# Altium integrated library TI Amplifiers and Linear Instrumentation Amplifier.IntLib: 274 symbols (part 10 of 10)
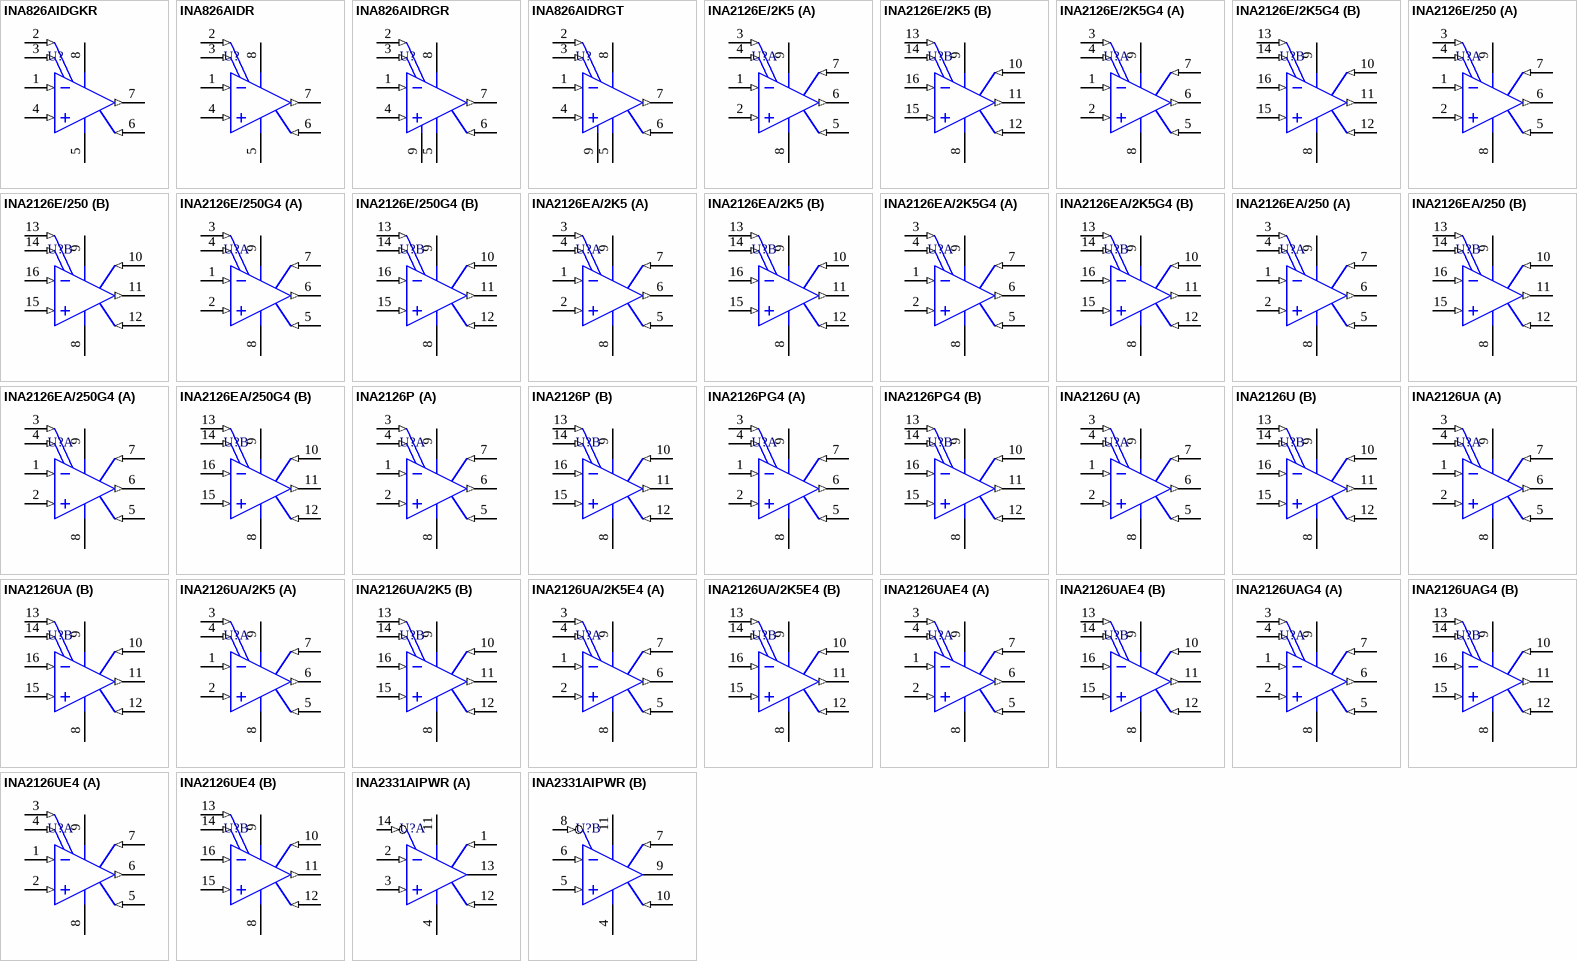
[diagram p17: symbols INA826AIDGKR to INA2331AIPWR]

## INA2126U
designator U?
Micropower Instrumentation Amplifier Dual Versions, -40 to 85 degC, 16-pin SOIC (D16), Green (RoHS & no Sb/Br); Manufacturer: Texas Instruments; PartNumber: INA2126U; Bandwidth at G: 100(Min)(kHz)=9; CMRR(Min)(dB): 83; Gain(V/V): 5 to 10000; Input Bias Current (+/-)(Max)(nA): 25; Input Offset (+/-)(Max)(uV): 250; Input Offset Drift (+/-)(Max)(uV/Degrees Celsius): 3; Noise at 1kHz(Typ)(nV/rt(Hz)): 35; Non-Linearity (+/-)(Max)(%): 0.012; Number of Channels: 2; Quiescent Current (+/-)(Typ)(mA): 0.175; SubFamily: Dual Supply; Vs(Max)(V): 36; Vs(Min)(V): 2.7; DatasheetVersion: SBOS062A; PackageVersion: 4040047-6/M, 06/2011; PackageReference: D16; PackageDescription: 16-Pin Plastic Small Outline, Body 9.9 x 3.9 mm, Pitch 1.27 mm; Supplier 1: Digi-Key; Supplier Part Number 1: INA2126U-ND; Supplier 2: Farnell; Supplier Part Number 2: 1459464; Supplier 3: Newark; Supplier Part Number 3: 61M6797; Supplier 4: Newark; Supplier Part Number 4: 74C9839; Supplier 5: Mouser; Supplier Part Number 5: 595-INA2126U; Eco-Plan: Green (RoHS & no Sb/Br); Mounting Technology: Surface Mount; Code_JEDEC: MS-012; ComponentLink1Description: Manufacturer URL; ComponentLink1URL: http://www.ti.com/; ComponentLink2Description: Datasheet; ComponentLink2URL: http://www.ti.com/general/docs/lit/getliterature.tsp?genericPartNumber=INA2126&fileType=pdf; ComponentLink3Description: Package Specification; ComponentLink3URL: http://www.ti.com/lit/ml/mpds178g/mpds178g.pdf
footprint TI-D16_N (SOIC, 16-Leads, Body 10x4mm, Pitch 1.27mm, IPC Medium Density)
footprint TI-D16_L (SOIC, 16-Leads, Body 10x4mm, Pitch 1.27mm, IPC High Density)
footprint TI-D16_M (SOIC, 16-Leads, Body 10x4mm, Pitch 1.27mm, IPC Low Density)
pins on every part: 8 V- (power), 9 V+ (power)
part A pins: 1 VINA- (in), 2 VINA+ (in), 3 RGA (in), 4 RGA (in), 5 REFA (in), 6 VOA (out), 7 SENSEA (in)
part B pins: 10 SENSEB (in), 11 VOB (out), 12 REFB (in), 13 RGB (in), 14 RGB (in), 15 VINB+ (in), 16 VINB- (in)

## INA2126UA
designator U?
Micropower Instrumentation Amplifier Dual Versions, -40 to 85 degC, 16-pin SOIC (D16), Green (RoHS & no Sb/Br); Manufacturer: Texas Instruments; PartNumber: INA2126UA; Bandwidth at G: 100(Min)(kHz)=9; CMRR(Min)(dB): 74; Gain(V/V): 5 to 10000; Input Bias Current (+/-)(Max)(nA): 50; Input Offset (+/-)(Max)(uV): 500; Input Offset Drift (+/-)(Max)(uV/Degrees Celsius): 5; Noise at 1kHz(Typ)(nV/rt(Hz)): 35; Non-Linearity (+/-)(Max)(%): 0.012; Number of Channels: 2; Quiescent Current (+/-)(Typ)(mA): 0.175; SubFamily: Dual Supply; Vs(Max)(V): 36; Vs(Min)(V): 2.7; DatasheetVersion: SBOS062A; PackageVersion: 4040047-6/M, 06/2011; PackageReference: D16; PackageDescription: 16-Pin Plastic Small Outline, Body 9.9 x 3.9 mm, Pitch 1.27 mm; Supplier 1: Digi-Key; Supplier Part Number 1: INA2126UA-ND; Supplier 2: Farnell; Supplier Part Number 2: 1459465; Supplier 3: Newark; Supplier Part Number 3: 61M6798; Supplier 4: Newark; Supplier Part Number 4: 80K5911; Supplier 5: Mouser; Supplier Part Number 5: 595-INA2126UA; Eco-Plan: Green (RoHS & no Sb/Br); Mounting Technology: Surface Mount; Code_JEDEC: MS-012; ComponentLink1Description: Manufacturer URL; ComponentLink1URL: http://www.ti.com/; ComponentLink2Description: Datasheet; ComponentLink2URL: http://www.ti.com/general/docs/lit/getliterature.tsp?genericPartNumber=INA2126&fileType=pdf; ComponentLink3Description: Package Specification; ComponentLink3URL: http://www.ti.com/lit/ml/mpds178g/mpds178g.pdf
footprint TI-D16_N (SOIC, 16-Leads, Body 10x4mm, Pitch 1.27mm, IPC Medium Density)
footprint TI-D16_L (SOIC, 16-Leads, Body 10x4mm, Pitch 1.27mm, IPC High Density)
footprint TI-D16_M (SOIC, 16-Leads, Body 10x4mm, Pitch 1.27mm, IPC Low Density)
pins on every part: 8 V- (power), 9 V+ (power)
part A pins: 1 VINA- (in), 2 VINA+ (in), 3 RGA (in), 4 RGA (in), 5 REFA (in), 6 VOA (out), 7 SENSEA (in)
part B pins: 10 SENSEB (in), 11 VOB (out), 12 REFB (in), 13 RGB (in), 14 RGB (in), 15 VINB+ (in), 16 VINB- (in)

## INA2126UA/2K5
designator U?
Micropower Instrumentation Amplifier Dual Versions, -40 to 85 degC, 16-pin SOIC (D16), Green (RoHS & no Sb/Br); Manufacturer: Texas Instruments; PartNumber: INA2126UA/2K5; Bandwidth at G: 100(Min)(kHz)=9; CMRR(Min)(dB): 74; Gain(V/V): 5 to 10000; Input Bias Current (+/-)(Max)(nA): 50; Input Offset (+/-)(Max)(uV): 500; Input Offset Drift (+/-)(Max)(uV/Degrees Celsius): 5; Noise at 1kHz(Typ)(nV/rt(Hz)): 35; Non-Linearity (+/-)(Max)(%): 0.012; Number of Channels: 2; Quiescent Current (+/-)(Typ)(mA): 0.175; SubFamily: Dual Supply; Vs(Max)(V): 36; Vs(Min)(V): 2.7; DatasheetVersion: SBOS062A; PackageVersion: 4040047-6/M, 06/2011; PackageReference: D16; PackageDescription: 16-Pin Plastic Small Outline, Body 9.9 x 3.9 mm, Pitch 1.27 mm; Supplier 1: Digi-Key; Supplier Part Number 1: INA2126UA/2K5-ND; Supplier 2: Newark; Supplier Part Number 2: 74C9841; Supplier 3: Mouser; Supplier Part Number 3: 595-INA2126UA/2K5; Eco-Plan: Green (RoHS & no Sb/Br); Mounting Technology: Surface Mount; Code_JEDEC: MS-012; ComponentLink1Description: Manufacturer URL; ComponentLink1URL: http://www.ti.com/; ComponentLink2Description: Datasheet; ComponentLink2URL: http://www.ti.com/general/docs/lit/getliterature.tsp?genericPartNumber=INA2126&fileType=pdf; ComponentLink3Description: Package Specification; ComponentLink3URL: http://www.ti.com/lit/ml/mpds178g/mpds178g.pdf
footprint TI-D16_N (SOIC, 16-Leads, Body 10x4mm, Pitch 1.27mm, IPC Medium Density)
footprint TI-D16_L (SOIC, 16-Leads, Body 10x4mm, Pitch 1.27mm, IPC High Density)
footprint TI-D16_M (SOIC, 16-Leads, Body 10x4mm, Pitch 1.27mm, IPC Low Density)
pins on every part: 8 V- (power), 9 V+ (power)
part A pins: 1 VINA- (in), 2 VINA+ (in), 3 RGA (in), 4 RGA (in), 5 REFA (in), 6 VOA (out), 7 SENSEA (in)
part B pins: 10 SENSEB (in), 11 VOB (out), 12 REFB (in), 13 RGB (in), 14 RGB (in), 15 VINB+ (in), 16 VINB- (in)

## INA2126UA/2K5E4
designator U?
Micropower Instrumentation Amplifier Dual Versions, -40 to 85 degC, 16-pin SOIC (D16), Green (RoHS & no Sb/Br); Manufacturer: Texas Instruments; PartNumber: INA2126UA/2K5E4; Bandwidth at G: 100(Min)(kHz)=9; CMRR(Min)(dB): 74; Gain(V/V): 5 to 10000; Input Bias Current (+/-)(Max)(nA): 50; Input Offset (+/-)(Max)(uV): 500; Input Offset Drift (+/-)(Max)(uV/Degrees Celsius): 5; Noise at 1kHz(Typ)(nV/rt(Hz)): 35; Non-Linearity (+/-)(Max)(%): 0.012; Number of Channels: 2; Quiescent Current (+/-)(Typ)(mA): 0.175; SubFamily: Dual Supply; Vs(Max)(V): 36; Vs(Min)(V): 2.7; DatasheetVersion: SBOS062A; PackageVersion: 4040047-6/M, 06/2011; PackageReference: D16; PackageDescription: 16-Pin Plastic Small Outline, Body 9.9 x 3.9 mm, Pitch 1.27 mm; Supplier 1: Digi-Key; Supplier Part Number 1: INA2126UA/2K5E4-ND; Supplier 2: Mouser; Supplier Part Number 2: 595-INA2126UA/2K5E4; Eco-Plan: Green (RoHS & no Sb/Br); Mounting Technology: Surface Mount; Code_JEDEC: MS-012; ComponentLink1Description: Manufacturer URL; ComponentLink1URL: http://www.ti.com/; ComponentLink2Description: Datasheet; ComponentLink2URL: http://www.ti.com/general/docs/lit/getliterature.tsp?genericPartNumber=INA2126&fileType=pdf; ComponentLink3Description: Package Specification; ComponentLink3URL: http://www.ti.com/lit/ml/mpds178g/mpds178g.pdf
footprint TI-D16_N (SOIC, 16-Leads, Body 10x4mm, Pitch 1.27mm, IPC Medium Density)
footprint TI-D16_L (SOIC, 16-Leads, Body 10x4mm, Pitch 1.27mm, IPC High Density)
footprint TI-D16_M (SOIC, 16-Leads, Body 10x4mm, Pitch 1.27mm, IPC Low Density)
pins on every part: 8 V- (power), 9 V+ (power)
part A pins: 1 VINA- (in), 2 VINA+ (in), 3 RGA (in), 4 RGA (in), 5 REFA (in), 6 VOA (out), 7 SENSEA (in)
part B pins: 10 SENSEB (in), 11 VOB (out), 12 REFB (in), 13 RGB (in), 14 RGB (in), 15 VINB+ (in), 16 VINB- (in)

## INA2126UAE4
designator U?
Micropower Instrumentation Amplifier Dual Versions, -40 to 85 degC, 16-pin SOIC (D16), Green (RoHS & no Sb/Br); Manufacturer: Texas Instruments; PartNumber: INA2126UAE4; Bandwidth at G: 100(Min)(kHz)=9; CMRR(Min)(dB): 74; Gain(V/V): 5 to 10000; Input Bias Current (+/-)(Max)(nA): 50; Input Offset (+/-)(Max)(uV): 500; Input Offset Drift (+/-)(Max)(uV/Degrees Celsius): 5; Noise at 1kHz(Typ)(nV/rt(Hz)): 35; Non-Linearity (+/-)(Max)(%): 0.012; Number of Channels: 2; Quiescent Current (+/-)(Typ)(mA): 0.175; SubFamily: Dual Supply; Vs(Max)(V): 36; Vs(Min)(V): 2.7; DatasheetVersion: SBOS062A; PackageVersion: 4040047-6/M, 06/2011; PackageReference: D16; PackageDescription: 16-Pin Plastic Small Outline, Body 9.9 x 3.9 mm, Pitch 1.27 mm; Supplier 1: Digi-Key; Supplier Part Number 1: INA2126UAE4-ND; Supplier 2: Farnell; Supplier Part Number 2: 1234796; Supplier 3: Mouser; Supplier Part Number 3: 595-INA2126UAE4; Eco-Plan: Green (RoHS & no Sb/Br); Mounting Technology: Surface Mount; Code_JEDEC: MS-012; ComponentLink1Description: Manufacturer URL; ComponentLink1URL: http://www.ti.com/; ComponentLink2Description: Datasheet; ComponentLink2URL: http://www.ti.com/general/docs/lit/getliterature.tsp?genericPartNumber=INA2126&fileType=pdf; ComponentLink3Description: Package Specification; ComponentLink3URL: http://www.ti.com/lit/ml/mpds178g/mpds178g.pdf
footprint TI-D16_N (SOIC, 16-Leads, Body 10x4mm, Pitch 1.27mm, IPC Medium Density)
footprint TI-D16_L (SOIC, 16-Leads, Body 10x4mm, Pitch 1.27mm, IPC High Density)
footprint TI-D16_M (SOIC, 16-Leads, Body 10x4mm, Pitch 1.27mm, IPC Low Density)
pins on every part: 8 V- (power), 9 V+ (power)
part A pins: 1 VINA- (in), 2 VINA+ (in), 3 RGA (in), 4 RGA (in), 5 REFA (in), 6 VOA (out), 7 SENSEA (in)
part B pins: 10 SENSEB (in), 11 VOB (out), 12 REFB (in), 13 RGB (in), 14 RGB (in), 15 VINB+ (in), 16 VINB- (in)

## INA2126UAG4
designator U?
Micropower Instrumentation Amplifier Dual Versions, -40 to 85 degC, 16-pin SOIC (D16), Green (RoHS & no Sb/Br); Manufacturer: Texas Instruments; PartNumber: INA2126UAG4; Bandwidth at G: 100(Min)(kHz)=9; CMRR(Min)(dB): 74; Gain(V/V): 5 to 10000; Input Bias Current (+/-)(Max)(nA): 50; Input Offset (+/-)(Max)(uV): 500; Input Offset Drift (+/-)(Max)(uV/Degrees Celsius): 5; Noise at 1kHz(Typ)(nV/rt(Hz)): 35; Non-Linearity (+/-)(Max)(%): 0.012; Number of Channels: 2; Quiescent Current (+/-)(Typ)(mA): 0.175; SubFamily: Dual Supply; Vs(Max)(V): 36; Vs(Min)(V): 2.7; DatasheetVersion: SBOS062A; PackageVersion: 4040047-6/M, 06/2011; PackageReference: D16; PackageDescription: 16-Pin Plastic Small Outline, Body 9.9 x 3.9 mm, Pitch 1.27 mm; Supplier 1: Digi-Key; Supplier Part Number 1: INA2126UAG4-ND; Supplier 2: Mouser; Supplier Part Number 2: 595-INA2126UAG4; Eco-Plan: Green (RoHS & no Sb/Br); Mounting Technology: Surface Mount; Code_JEDEC: MS-012; ComponentLink1Description: Manufacturer URL; ComponentLink1URL: http://www.ti.com/; ComponentLink2Description: Datasheet; ComponentLink2URL: http://www.ti.com/general/docs/lit/getliterature.tsp?genericPartNumber=INA2126&fileType=pdf; ComponentLink3Description: Package Specification; ComponentLink3URL: http://www.ti.com/lit/ml/mpds178g/mpds178g.pdf
footprint TI-D16_N (SOIC, 16-Leads, Body 10x4mm, Pitch 1.27mm, IPC Medium Density)
footprint TI-D16_L (SOIC, 16-Leads, Body 10x4mm, Pitch 1.27mm, IPC High Density)
footprint TI-D16_M (SOIC, 16-Leads, Body 10x4mm, Pitch 1.27mm, IPC Low Density)
pins on every part: 8 V- (power), 9 V+ (power)
part A pins: 1 VINA- (in), 2 VINA+ (in), 3 RGA (in), 4 RGA (in), 5 REFA (in), 6 VOA (out), 7 SENSEA (in)
part B pins: 10 SENSEB (in), 11 VOB (out), 12 REFB (in), 13 RGB (in), 14 RGB (in), 15 VINB+ (in), 16 VINB- (in)

## INA2126UE4
designator U?
Micropower Instrumentation Amplifier Dual Versions, -40 to 85 degC, 16-pin SOIC (D16), Green (RoHS & no Sb/Br); Manufacturer: Texas Instruments; PartNumber: INA2126UE4; Bandwidth at G: 100(Min)(kHz)=9; CMRR(Min)(dB): 83; Gain(V/V): 5 to 10000; Input Bias Current (+/-)(Max)(nA): 25; Input Offset (+/-)(Max)(uV): 250; Input Offset Drift (+/-)(Max)(uV/Degrees Celsius): 3; Noise at 1kHz(Typ)(nV/rt(Hz)): 35; Non-Linearity (+/-)(Max)(%): 0.012; Number of Channels: 2; Quiescent Current (+/-)(Typ)(mA): 0.175; SubFamily: Dual Supply; Vs(Max)(V): 36; Vs(Min)(V): 2.7; DatasheetVersion: SBOS062A; PackageVersion: 4040047-6/M, 06/2011; PackageReference: D16; PackageDescription: 16-Pin Plastic Small Outline, Body 9.9 x 3.9 mm, Pitch 1.27 mm; Supplier 1: Digi-Key; Supplier Part Number 1: INA2126UE4-ND; Supplier 2: Mouser; Supplier Part Number 2: 595-INA2126UE4; Eco-Plan: Green (RoHS & no Sb/Br); Mounting Technology: Surface Mount; Code_JEDEC: MS-012; ComponentLink1Description: Manufacturer URL; ComponentLink1URL: http://www.ti.com/; ComponentLink2Description: Datasheet; ComponentLink2URL: http://www.ti.com/general/docs/lit/getliterature.tsp?genericPartNumber=INA2126&fileType=pdf; ComponentLink3Description: Package Specification; ComponentLink3URL: http://www.ti.com/lit/ml/mpds178g/mpds178g.pdf
footprint TI-D16_N (SOIC, 16-Leads, Body 10x4mm, Pitch 1.27mm, IPC Medium Density)
footprint TI-D16_L (SOIC, 16-Leads, Body 10x4mm, Pitch 1.27mm, IPC High Density)
footprint TI-D16_M (SOIC, 16-Leads, Body 10x4mm, Pitch 1.27mm, IPC Low Density)
pins on every part: 8 V- (power), 9 V+ (power)
part A pins: 1 VINA- (in), 2 VINA+ (in), 3 RGA (in), 4 RGA (in), 5 REFA (in), 6 VOA (out), 7 SENSEA (in)
part B pins: 10 SENSEB (in), 11 VOB (out), 12 REFB (in), 13 RGB (in), 14 RGB (in), 15 VINB+ (in), 16 VINB- (in)

## INA2331AIPWR
designator U?
Low-Power, Single-Supply, CMOS Instrumentation Amplifier, -55 to 125 degC, 14-pin SOP (PW14), Green (RoHS & no Sb/Br); Manufacturer: Texas Instruments; PartNumber: INA2331AIPWR; CMRR(Min)(dB): 80; Gain(V/V): 5 to 1000; Input Bias Current (+/-)(Max)(nA): 0.01; Input Offset (+/-)(Max)(uV): 1000; Noise at 1kHz(Typ)(nV/rt(Hz)): 46; Number of Channels: 2; Quiescent Current (+/-)(Typ)(mA): 0.415; SubFamily: Single Supply; Vs(Max)(V): 5.5; Vs(Min)(V): 2.7; DatasheetVersion: SBOS215C; PackageVersion: 4040064-3/G, 02/2011; PackageReference: PW14; PackageDescription: 14-Pin Plastic Small Outline, Body 5 x 4.4 mm, Pitch 0.65 mm; Supplier 1: Digi-Key; Supplier Part Number 1: INA2331AIPWRTR-ND; Supplier 2: Digi-Key; Supplier Part Number 2: INA2331AIPWRCT-ND; Supplier 3: Digi-Key; Supplier Part Number 3: INA2331AIPWRDKR-ND; Supplier 4: Newark; Supplier Part Number 4: 74C9864; Supplier 5: Mouser; Supplier Part Number 5: 595-INA2331AIPWR; Eco-Plan: Green (RoHS & no Sb/Br); Non-Linearity (+/-)(Max)(%): 0.01; Mounting Technology: Surface Mount; Code_JEDEC: MO-153; ComponentLink1Description: Manufacturer URL; ComponentLink1URL: http://www.ti.com/; ComponentLink2Description: Datasheet; ComponentLink2URL: http://www.ti.com/general/docs/lit/getliterature.tsp?genericPartNumber=INA2331&fileType=pdf; ComponentLink3Description: Package Specification; ComponentLink3URL: http://www.ti.com/litv/pdf/mpds360
footprint TI-PW14_N (SOP, 14-Leads, Body 5.1x4.5mm, Pitch 0.65mm, IPC Medium Density)
footprint TI-PW14_L (SOP, 14-Leads, Body 5.1x4.5mm, Pitch 0.65mm, IPC High Density)
footprint TI-PW14_M (SOP, 14-Leads, Body 5.1x4.5mm, Pitch 0.65mm, IPC Low Density)
pins on every part: 4 V- (power), 11 V+ (power)
part A pins: 1 RGA (in), 2 VINA- (in), 3 VINA+ (in), 12 REFA (in), 13 VOUTA (hiz), 14 SHUTDOWN A (in)
part B pins: 5 VINB+ (in), 6 VINB- (in), 7 RGB (in), 8 SHUTDOWN B (in), 9 VOUTB (hiz), 10 REFB (in)

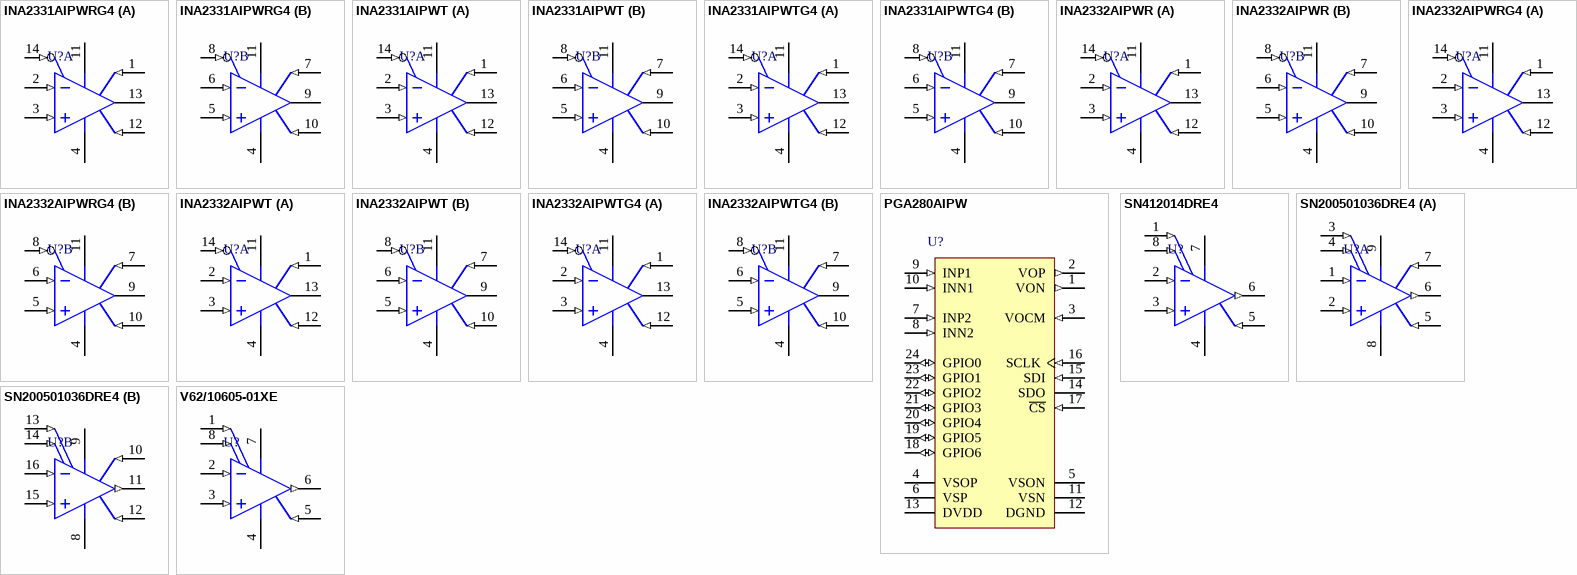
[diagram p8: symbols INA2331AIPWRG4 to V62/10605-01XE]

## INA2331AIPWRG4
designator U?
Low-Power, Single-Supply, CMOS Instrumentation Amplifier, -55 to 125 degC, 14-pin SOP (PW14), Green (RoHS & no Sb/Br); Manufacturer: Texas Instruments; PartNumber: INA2331AIPWRG4; CMRR(Min)(dB): 80; Gain(V/V): 5 to 1000; Input Bias Current (+/-)(Max)(nA): 0.01; Input Offset (+/-)(Max)(uV): 1000; Noise at 1kHz(Typ)(nV/rt(Hz)): 46; Number of Channels: 2; Quiescent Current (+/-)(Typ)(mA): 0.415; SubFamily: Single Supply; Vs(Max)(V): 5.5; Vs(Min)(V): 2.7; DatasheetVersion: SBOS215C; PackageVersion: 4040064-3/G, 02/2011; PackageReference: PW14; PackageDescription: 14-Pin Plastic Small Outline, Body 5 x 4.4 mm, Pitch 0.65 mm; Supplier 1: Digi-Key; Supplier Part Number 1: INA2331AIPWRG4-ND; Supplier 2: Mouser; Supplier Part Number 2: 595-INA2331AIPWRG4; Eco-Plan: Green (RoHS & no Sb/Br); Non-Linearity (+/-)(Max)(%): 0.01; Mounting Technology: Surface Mount; Code_JEDEC: MO-153; ComponentLink1Description: Manufacturer URL; ComponentLink1URL: http://www.ti.com/; ComponentLink2Description: Datasheet; ComponentLink2URL: http://www.ti.com/general/docs/lit/getliterature.tsp?genericPartNumber=INA2331&fileType=pdf; ComponentLink3Description: Package Specification; ComponentLink3URL: http://www.ti.com/litv/pdf/mpds360
footprint TI-PW14_N (SOP, 14-Leads, Body 5.1x4.5mm, Pitch 0.65mm, IPC Medium Density)
footprint TI-PW14_L (SOP, 14-Leads, Body 5.1x4.5mm, Pitch 0.65mm, IPC High Density)
footprint TI-PW14_M (SOP, 14-Leads, Body 5.1x4.5mm, Pitch 0.65mm, IPC Low Density)
pins on every part: 4 V- (power), 11 V+ (power)
part A pins: 1 RGA (in), 2 VINA- (in), 3 VINA+ (in), 12 REFA (in), 13 VOUTA (hiz), 14 SHUTDOWN A (in)
part B pins: 5 VINB+ (in), 6 VINB- (in), 7 RGB (in), 8 SHUTDOWN B (in), 9 VOUTB (hiz), 10 REFB (in)

## INA2331AIPWT
designator U?
Low-Power, Single-Supply, CMOS Instrumentation Amplifier, -55 to 125 degC, 14-pin SOP (PW14), Green (RoHS & no Sb/Br); Manufacturer: Texas Instruments; PartNumber: INA2331AIPWT; CMRR(Min)(dB): 80; Gain(V/V): 5 to 1000; Input Bias Current (+/-)(Max)(nA): 0.01; Input Offset (+/-)(Max)(uV): 1000; Noise at 1kHz(Typ)(nV/rt(Hz)): 46; Number of Channels: 2; Quiescent Current (+/-)(Typ)(mA): 0.415; SubFamily: Single Supply; Vs(Max)(V): 5.5; Vs(Min)(V): 2.7; DatasheetVersion: SBOS215C; PackageVersion: 4040064-3/G, 02/2011; PackageReference: PW14; PackageDescription: 14-Pin Plastic Small Outline, Body 5 x 4.4 mm, Pitch 0.65 mm; Supplier 1: Digi-Key; Supplier Part Number 1: 296-17647-2-ND; Supplier 2: Digi-Key; Supplier Part Number 2: 296-17647-1-ND; Supplier 3: Digi-Key; Supplier Part Number 3: 296-17647-6-ND; Supplier 4: Newark; Supplier Part Number 4: 74C9865; Supplier 5: Mouser; Supplier Part Number 5: 595-INA2331AIPWT; Eco-Plan: Green (RoHS & no Sb/Br); Non-Linearity (+/-)(Max)(%): 0.01; Mounting Technology: Surface Mount; Code_JEDEC: MO-153; ComponentLink1Description: Manufacturer URL; ComponentLink1URL: http://www.ti.com/; ComponentLink2Description: Datasheet; ComponentLink2URL: http://www.ti.com/general/docs/lit/getliterature.tsp?genericPartNumber=INA2331&fileType=pdf; ComponentLink3Description: Package Specification; ComponentLink3URL: http://www.ti.com/litv/pdf/mpds360
footprint TI-PW14_N (SOP, 14-Leads, Body 5.1x4.5mm, Pitch 0.65mm, IPC Medium Density)
footprint TI-PW14_L (SOP, 14-Leads, Body 5.1x4.5mm, Pitch 0.65mm, IPC High Density)
footprint TI-PW14_M (SOP, 14-Leads, Body 5.1x4.5mm, Pitch 0.65mm, IPC Low Density)
pins on every part: 4 V- (power), 11 V+ (power)
part A pins: 1 RGA (in), 2 VINA- (in), 3 VINA+ (in), 12 REFA (in), 13 VOUTA (hiz), 14 SHUTDOWN A (in)
part B pins: 5 VINB+ (in), 6 VINB- (in), 7 RGB (in), 8 SHUTDOWN B (in), 9 VOUTB (hiz), 10 REFB (in)

## INA2331AIPWTG4
designator U?
Low-Power, Single-Supply, CMOS Instrumentation Amplifier, -55 to 125 degC, 14-pin SOP (PW14), Green (RoHS & no Sb/Br); Manufacturer: Texas Instruments; PartNumber: INA2331AIPWTG4; CMRR(Min)(dB): 80; Gain(V/V): 5 to 1000; Input Bias Current (+/-)(Max)(nA): 0.01; Input Offset (+/-)(Max)(uV): 1000; Noise at 1kHz(Typ)(nV/rt(Hz)): 46; Number of Channels: 2; Quiescent Current (+/-)(Typ)(mA): 0.415; SubFamily: Single Supply; Vs(Max)(V): 5.5; Vs(Min)(V): 2.7; DatasheetVersion: SBOS215C; PackageVersion: 4040064-3/G, 02/2011; PackageReference: PW14; PackageDescription: 14-Pin Plastic Small Outline, Body 5 x 4.4 mm, Pitch 0.65 mm; Supplier 1: Digi-Key; Supplier Part Number 1: INA2331AIPWTG4-ND; Supplier 2: Mouser; Supplier Part Number 2: 595-INA2331AIPWTG4; Eco-Plan: Green (RoHS & no Sb/Br); Non-Linearity (+/-)(Max)(%): 0.01; Mounting Technology: Surface Mount; Code_JEDEC: MO-153; ComponentLink1Description: Manufacturer URL; ComponentLink1URL: http://www.ti.com/; ComponentLink2Description: Datasheet; ComponentLink2URL: http://www.ti.com/general/docs/lit/getliterature.tsp?genericPartNumber=INA2331&fileType=pdf; ComponentLink3Description: Package Specification; ComponentLink3URL: http://www.ti.com/litv/pdf/mpds360
footprint TI-PW14_N (SOP, 14-Leads, Body 5.1x4.5mm, Pitch 0.65mm, IPC Medium Density)
footprint TI-PW14_L (SOP, 14-Leads, Body 5.1x4.5mm, Pitch 0.65mm, IPC High Density)
footprint TI-PW14_M (SOP, 14-Leads, Body 5.1x4.5mm, Pitch 0.65mm, IPC Low Density)
pins on every part: 4 V- (power), 11 V+ (power)
part A pins: 1 RGA (in), 2 VINA- (in), 3 VINA+ (in), 12 REFA (in), 13 VOUTA (hiz), 14 SHUTDOWN A (in)
part B pins: 5 VINB+ (in), 6 VINB- (in), 7 RGB (in), 8 SHUTDOWN B (in), 9 VOUTB (hiz), 10 REFB (in)

## INA2332AIPWR
designator U?
Low-Power, Single-Supply, CMOS Instrumentation Amplifier, -55 to 125 degC, 14-pin SOP (PW14), Green (RoHS & no Sb/Br); Manufacturer: Texas Instruments; PartNumber: INA2332AIPWR; CMRR(Min)(dB): 60; Gain(V/V): 5 to 1000; Input Bias Current (+/-)(Max)(nA): 0.01; Input Offset (+/-)(Max)(uV): 8000; Noise at 1kHz(Typ)(nV/rt(Hz)): 46; Number of Channels: 2; Quiescent Current (+/-)(Typ)(mA): 0.415; SubFamily: Single Supply; Vs(Max)(V): 5.5; Vs(Min)(V): 2.7; DatasheetVersion: SBOS216B; PackageVersion: 4040064-3/G, 02/2011; PackageReference: PW14; PackageDescription: 14-Pin Plastic Small Outline, Body 5 x 4.4 mm, Pitch 0.65 mm; Supplier 1: Digi-Key; Supplier Part Number 1: INA2332AIPWRTR-ND; Supplier 2: Digi-Key; Supplier Part Number 2: INA2332AIPWRCT-ND; Supplier 3: Digi-Key; Supplier Part Number 3: INA2332AIPWRDKR-ND; Supplier 4: Newark; Supplier Part Number 4: 74C9866; Supplier 5: Mouser; Supplier Part Number 5: 595-INA2332AIPWR; Eco-Plan: Green (RoHS & no Sb/Br); Non-Linearity (+/-)(Max)(%): 0.01; Mounting Technology: Surface Mount; Code_JEDEC: MO-153; ComponentLink1Description: Manufacturer URL; ComponentLink1URL: http://www.ti.com/; ComponentLink2Description: Datasheet; ComponentLink2URL: http://www.ti.com/general/docs/lit/getliterature.tsp?genericPartNumber=INA2332&fileType=pdf; ComponentLink3Description: Package Specification; ComponentLink3URL: http://www.ti.com/litv/pdf/mpds360
footprint TI-PW14_N (SOP, 14-Leads, Body 5.1x4.5mm, Pitch 0.65mm, IPC Medium Density)
footprint TI-PW14_L (SOP, 14-Leads, Body 5.1x4.5mm, Pitch 0.65mm, IPC High Density)
footprint TI-PW14_M (SOP, 14-Leads, Body 5.1x4.5mm, Pitch 0.65mm, IPC Low Density)
pins on every part: 4 V- (power), 11 V+ (power)
part A pins: 1 RGA (in), 2 VINA- (in), 3 VINA+ (in), 12 REFA (in), 13 VOUTA (hiz), 14 SHUTDOWN A (in)
part B pins: 5 VINB+ (in), 6 VINB- (in), 7 RGB (in), 8 SHUTDOWN B (in), 9 VOUTB (hiz), 10 REFB (in)

## INA2332AIPWRG4
designator U?
Low-Power, Single-Supply, CMOS Instrumentation Amplifier, -55 to 125 degC, 14-pin SOP (PW14), Green (RoHS & no Sb/Br); Manufacturer: Texas Instruments; PartNumber: INA2332AIPWRG4; CMRR(Min)(dB): 60; Gain(V/V): 5 to 1000; Input Bias Current (+/-)(Max)(nA): 0.01; Input Offset (+/-)(Max)(uV): 8000; Noise at 1kHz(Typ)(nV/rt(Hz)): 46; Number of Channels: 2; Quiescent Current (+/-)(Typ)(mA): 0.415; SubFamily: Single Supply; Vs(Max)(V): 5.5; Vs(Min)(V): 2.7; DatasheetVersion: SBOS216B; PackageVersion: 4040064-3/G, 02/2011; PackageReference: PW14; PackageDescription: 14-Pin Plastic Small Outline, Body 5 x 4.4 mm, Pitch 0.65 mm; Supplier 1: Digi-Key; Supplier Part Number 1: INA2332AIPWRG4-ND; Supplier 2: Mouser; Supplier Part Number 2: 595-INA2332AIPWRG4; Eco-Plan: Green (RoHS & no Sb/Br); Non-Linearity (+/-)(Max)(%): 0.01; Mounting Technology: Surface Mount; Code_JEDEC: MO-153; ComponentLink1Description: Manufacturer URL; ComponentLink1URL: http://www.ti.com/; ComponentLink2Description: Datasheet; ComponentLink2URL: http://www.ti.com/general/docs/lit/getliterature.tsp?genericPartNumber=INA2332&fileType=pdf; ComponentLink3Description: Package Specification; ComponentLink3URL: http://www.ti.com/litv/pdf/mpds360
footprint TI-PW14_N (SOP, 14-Leads, Body 5.1x4.5mm, Pitch 0.65mm, IPC Medium Density)
footprint TI-PW14_L (SOP, 14-Leads, Body 5.1x4.5mm, Pitch 0.65mm, IPC High Density)
footprint TI-PW14_M (SOP, 14-Leads, Body 5.1x4.5mm, Pitch 0.65mm, IPC Low Density)
pins on every part: 4 V- (power), 11 V+ (power)
part A pins: 1 RGA (in), 2 VINA- (in), 3 VINA+ (in), 12 REFA (in), 13 VOUTA (hiz), 14 SHUTDOWN A (in)
part B pins: 5 VINB+ (in), 6 VINB- (in), 7 RGB (in), 8 SHUTDOWN B (in), 9 VOUTB (hiz), 10 REFB (in)

## INA2332AIPWT
designator U?
Low-Power, Single-Supply, CMOS Instrumentation Amplifier, -55 to 125 degC, 14-pin SOP (PW14), Green (RoHS & no Sb/Br); Manufacturer: Texas Instruments; PartNumber: INA2332AIPWT; CMRR(Min)(dB): 60; Gain(V/V): 5 to 1000; Input Bias Current (+/-)(Max)(nA): 0.01; Input Offset (+/-)(Max)(uV): 8000; Noise at 1kHz(Typ)(nV/rt(Hz)): 46; Number of Channels: 2; Quiescent Current (+/-)(Typ)(mA): 0.415; SubFamily: Single Supply; Vs(Max)(V): 5.5; Vs(Min)(V): 2.7; DatasheetVersion: SBOS216B; PackageVersion: 4040064-3/G, 02/2011; PackageReference: PW14; PackageDescription: 14-Pin Plastic Small Outline, Body 5 x 4.4 mm, Pitch 0.65 mm; Supplier 1: Digi-Key; Supplier Part Number 1: 296-32100-2-ND; Supplier 2: Digi-Key; Supplier Part Number 2: 296-32100-1-ND; Supplier 3: Digi-Key; Supplier Part Number 3: 296-32100-6-ND; Supplier 4: Newark; Supplier Part Number 4: 74C9867; Supplier 5: Mouser; Supplier Part Number 5: 595-INA2332AIPWT; Eco-Plan: Green (RoHS & no Sb/Br); Non-Linearity (+/-)(Max)(%): 0.01; Mounting Technology: Surface Mount; Code_JEDEC: MO-153; ComponentLink1Description: Manufacturer URL; ComponentLink1URL: http://www.ti.com/; ComponentLink2Description: Datasheet; ComponentLink2URL: http://www.ti.com/general/docs/lit/getliterature.tsp?genericPartNumber=INA2332&fileType=pdf; ComponentLink3Description: Package Specification; ComponentLink3URL: http://www.ti.com/litv/pdf/mpds360
footprint TI-PW14_N (SOP, 14-Leads, Body 5.1x4.5mm, Pitch 0.65mm, IPC Medium Density)
footprint TI-PW14_L (SOP, 14-Leads, Body 5.1x4.5mm, Pitch 0.65mm, IPC High Density)
footprint TI-PW14_M (SOP, 14-Leads, Body 5.1x4.5mm, Pitch 0.65mm, IPC Low Density)
pins on every part: 4 V- (power), 11 V+ (power)
part A pins: 1 RGA (in), 2 VINA- (in), 3 VINA+ (in), 12 REFA (in), 13 VOUTA (hiz), 14 SHUTDOWN A (in)
part B pins: 5 VINB+ (in), 6 VINB- (in), 7 RGB (in), 8 SHUTDOWN B (in), 9 VOUTB (hiz), 10 REFB (in)

## INA2332AIPWTG4
designator U?
Low-Power, Single-Supply, CMOS Instrumentation Amplifier, -55 to 125 degC, 14-pin SOP (PW14), Green (RoHS & no Sb/Br); Manufacturer: Texas Instruments; PartNumber: INA2332AIPWTG4; CMRR(Min)(dB): 60; Gain(V/V): 5 to 1000; Input Bias Current (+/-)(Max)(nA): 0.01; Input Offset (+/-)(Max)(uV): 8000; Noise at 1kHz(Typ)(nV/rt(Hz)): 46; Number of Channels: 2; Quiescent Current (+/-)(Typ)(mA): 0.415; SubFamily: Single Supply; Vs(Max)(V): 5.5; Vs(Min)(V): 2.7; DatasheetVersion: SBOS216B; PackageVersion: 4040064-3/G, 02/2011; PackageReference: PW14; PackageDescription: 14-Pin Plastic Small Outline, Body 5 x 4.4 mm, Pitch 0.65 mm; Supplier 1: Digi-Key; Supplier Part Number 1: INA2332AIPWTG4-ND; Supplier 2: Mouser; Supplier Part Number 2: 595-INA2332AIPWTG4; Eco-Plan: Green (RoHS & no Sb/Br); Non-Linearity (+/-)(Max)(%): 0.01; Mounting Technology: Surface Mount; Code_JEDEC: MO-153; ComponentLink1Description: Manufacturer URL; ComponentLink1URL: http://www.ti.com/; ComponentLink2Description: Datasheet; ComponentLink2URL: http://www.ti.com/general/docs/lit/getliterature.tsp?genericPartNumber=INA2332&fileType=pdf; ComponentLink3Description: Package Specification; ComponentLink3URL: http://www.ti.com/litv/pdf/mpds360
footprint TI-PW14_N (SOP, 14-Leads, Body 5.1x4.5mm, Pitch 0.65mm, IPC Medium Density)
footprint TI-PW14_L (SOP, 14-Leads, Body 5.1x4.5mm, Pitch 0.65mm, IPC High Density)
footprint TI-PW14_M (SOP, 14-Leads, Body 5.1x4.5mm, Pitch 0.65mm, IPC Low Density)
pins on every part: 4 V- (power), 11 V+ (power)
part A pins: 1 RGA (in), 2 VINA- (in), 3 VINA+ (in), 12 REFA (in), 13 VOUTA (hiz), 14 SHUTDOWN A (in)
part B pins: 5 VINB+ (in), 6 VINB- (in), 7 RGB (in), 8 SHUTDOWN B (in), 9 VOUTB (hiz), 10 REFB (in)

## PGA280AIPW
designator U?
Zero Drift, HV Programmable Gain Amplifier, -40 to 125 degC, 24-pin SOP (PW24), Green (RoHS & no Sb/Br); Manufacturer: Texas Instruments; PartNumber: PGA280AIPW; Gain(V/V): 1/8 to 128; Input Bias Current (+/-)(Max)(nA): 2; Input Offset (+/-)(Max)(uV): 15; Input Offset Drift (+/-)(Max)(uV/Degrees Celsius): 0.17; Noise at 1kHz(Typ)(nV/rt(Hz)): 22; Number of Channels: 4; SubFamily: Dual Supply; Vs(Max)(V): 36; Vs(Min)(V): 10; DatasheetVersion: SBOS487A; PackageVersion: 4040064-6/G, 02/2011; PackageReference: PW24; PackageDescription: 24-Pin Plastic Small Outline, Body 7.8 x 4.4 mm, Pitch 0.65 mm; Supplier 1: Digi-Key; Supplier Part Number 1: 296-25143-5-ND; Supplier 2: Farnell; Supplier Part Number 2: 1771744; Supplier 3: Newark; Supplier Part Number 3: 50R9619; Supplier 4: Newark; Supplier Part Number 4: 27R0200; Supplier 5: Mouser; Supplier Part Number 5: 595-PGA280AIPW; Eco-Plan: Green (RoHS & no Sb/Br); Mounting Technology: Surface Mount; Code_JEDEC: MO-153; ComponentLink1Description: Manufacturer URL; ComponentLink1URL: http://www.ti.com/; ComponentLink2Description: Datasheet; ComponentLink2URL: http://www.ti.com/general/docs/lit/getliterature.tsp?genericPartNumber=PGA280&fileType=pdf; ComponentLink3Description: Package Specification; ComponentLink3URL: http://www.ti.com/litv/pdf/mpds363
footprint TI-PW24_N (SOP, 24-Leads, Body 7.8x4.4mm, Pitch 0.65mm, IPC Medium Density)
footprint TI-PW24_L (SOP, 24-Leads, Body 7.8x4.4mm, Pitch 0.65mm, IPC High Density)
footprint TI-PW24_M (SOP, 24-Leads, Body 7.8x4.4mm, Pitch 0.65mm, IPC Low Density)
pins: 1 VON (out) "Inverting signal output", 2 VOP (out) "Noninverting signal output", 3 VOCM (in) "Input, output common-mode voltage", 4 VSOP (power) "Positive supply for output", 5 VSON (power) "Negative supply for output, AGND", 6 VSP (power) "Positive high-voltage supply", 7 INP2 (in) "AUX input, noninverting", 8 INN2 (in) "AUX input, inverting", 9 INP1 (in) "Signal input, noninverting", 10 INN1 (in) "Signal input, inverting", 11 VSN (power) "Negative high-voltage supply", 12 DGND (power) "Digital ground", 13 DVDD (power) "Digital supply", 14 SDO (hiz) "SPI slave data output", 15 SDI (in) "SPI slave data input", 16 SCLK (in) "SPI clock input", 17 ~{CS} (in) "SPI chip select input; active low", 18 GPIO6 (io) "GPIO 6, SYNC (in), OSC (out), E\C\S\6", 19 GPIO5 (io) "GPIO 5, BUFA (out), E\C\S\5", 20 GPIO4 (io) "GPIO 4, BUFT (in), E\C\S\4", 21 GPIO3 (io) "GPIO 3, EF (out), E\C\S\3", 22 GPIO2 (io) "GPIO 2, E\C\S\2, MUX2", 23 GPIO1 (io) "GPIO 1, E\C\S\1, MUX1", 24 GPIO0 (io) "GPIO 0, E\C\S\0, MUX0"

## SN412014DRE4
designator U?
Precision, Low Power Instrumentation Amplifier, -40 to 125 degC, 8-pin SOIC (D8), Green (RoHS & no Sb/Br); Manufacturer: Texas Instruments; PartNumber: SN412014DRE4; CMRR(Min)(dB): 120; Gain(V/V): 1 to 10000; Input Bias Current (+/-)(Max)(nA): 5; Input Offset (+/-)(Max)(uV): 125; Input Offset Drift (+/-)(Max)(uV/Degrees Celsius): 1; Noise at 1kHz(Typ)(nV/rt(Hz)): 8; Non-Linearity (+/-)(Max)(%): 0.002; Output Offset Drift (+/-)(Max)(uV/Degrees Celsius): 20/G; Quiescent Current (+/-)(Typ)(mA): 0.7; SubFamily: Dual Supply; Vs(Max)(V): 36; Vs(Min)(V): 4.5; DatasheetVersion: SBOS051B; PackageVersion: 4040047-3/M, 06/2011; PackageReference: D8; PackageDescription: 8-Pin Plastic Small Outline, Body 4.9 x 3.9 mm, Pitch 1.27 mm; Supplier 1: Digi-Key; Supplier Part Number 1: SN412014DRE4-ND; Supplier 2: Newark; Supplier Part Number 2: 80K2883; Supplier 3: Mouser; Supplier Part Number 3: 595-SN412014DRE4; Eco-Plan: Green (RoHS & no Sb/Br); Number of Channels: 1; Mounting Technology: Surface Mount; Code_JEDEC: MS-012; ComponentLink1Description: Manufacturer URL; ComponentLink1URL: http://www.ti.com/; ComponentLink2Description: Datasheet; ComponentLink2URL: http://www.ti.com/general/docs/lit/getliterature.tsp?genericPartNumber=INA128&fileType=pdf; ComponentLink3Description: Package Specification; ComponentLink3URL: http://www.ti.com/litv/pdf/msoi002j
footprint TI-D8_N (SOIC, 8-Leads, Body 5x4mm, Pitch 1.27mm, IPC Medium Density)
footprint TI-D8_L (SOIC, 8-Leads, Body 5x4mm, Pitch 1.27mm, IPC High Density)
footprint TI-D8_M (SOIC, 8-Leads, Body 5x4mm, Pitch 1.27mm, IPC Low Density)
pins: 1 RG (in), 2 VIN- (in), 3 VIN+ (in), 4 V- (power), 5 REF (in), 6 VO (out), 7 V+ (power), 8 RG (in)

## SN200501036DRE4
designator U?
Micropower Instrumentation Amplifier Single and Dual Versions, -40 to 85 degC, 16-pin SOIC (D16), Green (RoHS & no Sb/Br); Manufacturer: Texas Instruments; PartNumber: SN200501036DRE4; CMRR(Min)(dB): 83; Gain(V/V): 5 to 10000; Input Bias Current (+/-)(Max)(nA): 25; Input Offset (+/-)(Max)(uV): 250; Input Offset Drift (+/-)(Max)(uV/Degrees Celsius): 3; Noise at 1kHz(Typ)(nV/rt(Hz)): 35; Non-Linearity (+/-)(Max)(%): 0.012; Number of Channels: 2; Quiescent Current (+/-)(Typ)(mA): 0.175; SubFamily: Dual Supply; Vs(Max)(V): 36; Vs(Min)(V): 2.7; DatasheetVersion: SBOS062A; PackageVersion: 4040047-6/M, 06/2011; PackageReference: D16; PackageDescription: 16-Pin Plastic Small Outline, Body 9.9 x 3.9 mm, Pitch 1.27 mm; Supplier 1: Digi-Key; Supplier Part Number 1: SN200501036DRE4-ND; Supplier 2: Mouser; Supplier Part Number 2: 595-SN200501036DRE4; Eco-Plan: Green (RoHS & no Sb/Br); Mounting Technology: Surface Mount; Code_JEDEC: MS-012; ComponentLink1Description: Manufacturer URL; ComponentLink1URL: http://www.ti.com/; ComponentLink2Description: Datasheet; ComponentLink2URL: http://www.ti.com/general/docs/lit/getliterature.tsp?genericPartNumber=INA2126&fileType=pdf; ComponentLink3Description: Package Specification; ComponentLink3URL: http://www.ti.com/lit/ml/mpds178g/mpds178g.pdf
footprint TI-D16_N (SOIC, 16-Leads, Body 10x4mm, Pitch 1.27mm, IPC Medium Density)
footprint TI-D16_L (SOIC, 16-Leads, Body 10x4mm, Pitch 1.27mm, IPC High Density)
footprint TI-D16_M (SOIC, 16-Leads, Body 10x4mm, Pitch 1.27mm, IPC Low Density)
pins on every part: 8 V- (power), 9 V+ (power)
part A pins: 1 VINA- (in), 2 VINA+ (in), 3 RGA (in), 4 RGA (in), 5 REFA (in), 6 VOA (out), 7 SENSEA (in)
part B pins: 10 SENSEB (in), 11 VOB (out), 12 REFB (in), 13 RGB (in), 14 RGB (in), 15 VINB+ (in), 16 VINB- (in)

## V62/10605-01XE
designator U?
Enhanced Product Precision, Low Power Instrumentation Amplifier, -55 to 125 degC, 8-pin SOIC (D8), Green (RoHS & no Sb/Br); Manufacturer: Texas Instruments; PartNumber: V62/10605-01XE; CMRR(Min)(dB): 113; Gain(V/V): 1 to 10000; Input Bias Current (+/-)(Max)(nA): 8; Input Offset (+/-)(Max)(uV): 100; Non-Linearity (+/-)(Max)(%): 0.0035; Number of Channels: 1; Output Offset (+/-)(Max)(uV): 800/G; Quiescent Current (+/-)(Typ)(mA): 0.7; SubFamily: Dual Supply; Vs(Max)(V): 36; Vs(Min)(V): 4.5; DatasheetVersion: SBOS508; PackageVersion: 4040047-3/M, 06/2011; PackageReference: D8; PackageDescription: 8-Pin Plastic Small Outline, Body 4.9 x 3.9 mm, Pitch 1.27 mm; Supplier 1: Mouser; Supplier Part Number 1: 595-V62/10605-01XE; Eco-Plan: Green (RoHS & no Sb/Br); Noise at 1kHz(Typ)(nV/rt(Hz)): 8; Mounting Technology: Surface Mount; Code_JEDEC: MS-012; ComponentLink1Description: Manufacturer URL; ComponentLink1URL: http://www.ti.com/; ComponentLink2Description: Datasheet; ComponentLink2URL: http://www.ti.com/general/docs/lit/getliterature.tsp?genericPartNumber=INA129-EP&fileType=pdf; ComponentLink3Description: Package Specification; ComponentLink3URL: http://www.ti.com/litv/pdf/msoi002j
footprint TI-D8_N (SOIC, 8-Leads, Body 5x4mm, Pitch 1.27mm, IPC Medium Density)
footprint TI-D8_L (SOIC, 8-Leads, Body 5x4mm, Pitch 1.27mm, IPC High Density)
footprint TI-D8_M (SOIC, 8-Leads, Body 5x4mm, Pitch 1.27mm, IPC Low Density)
pins: 1 RG (in), 2 VIN- (in), 3 VIN+ (in), 4 V- (power), 5 REF (in), 6 VO (out), 7 V+ (power), 8 RG (in)